# EAGLE library part CC3-E (library dc-dc-converter)
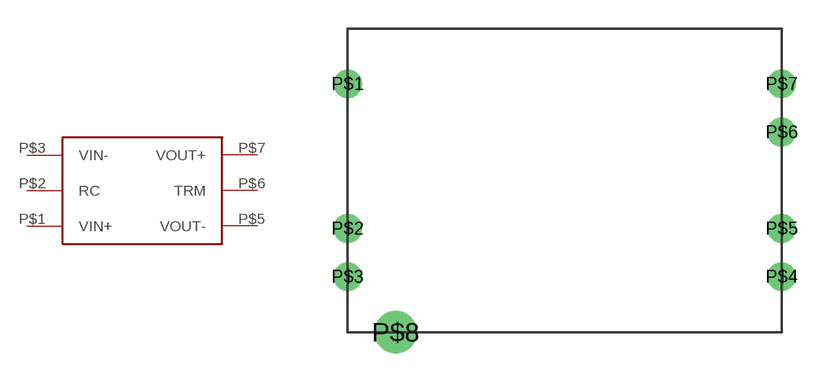
[diagram p7: symbol with the pads of CC3-E; footprint CC3-E]

Designator prefix -

## CC3-E  [CC3-E]
P$1  VIN+
P$2  RC
P$3  VIN-
P$5  VOUT-
P$6  TRM
P$7  VOUT+

## Footprint CC3-E (pad centres in mm)
drill 1: P$1 0,13.08; P$2 0,5.46; P$3 0,2.92; P$4 22.86,2.92; P$5 22.86,5.46; P$6 22.86,10.54; P$7 22.86,13.08
drill 1.5: P$8 2.54,0